# Altium schematic symbol library Connectors.SchLib: 11 symbols
Pins are listed as number, name and electrical type; pins without a type are passive.

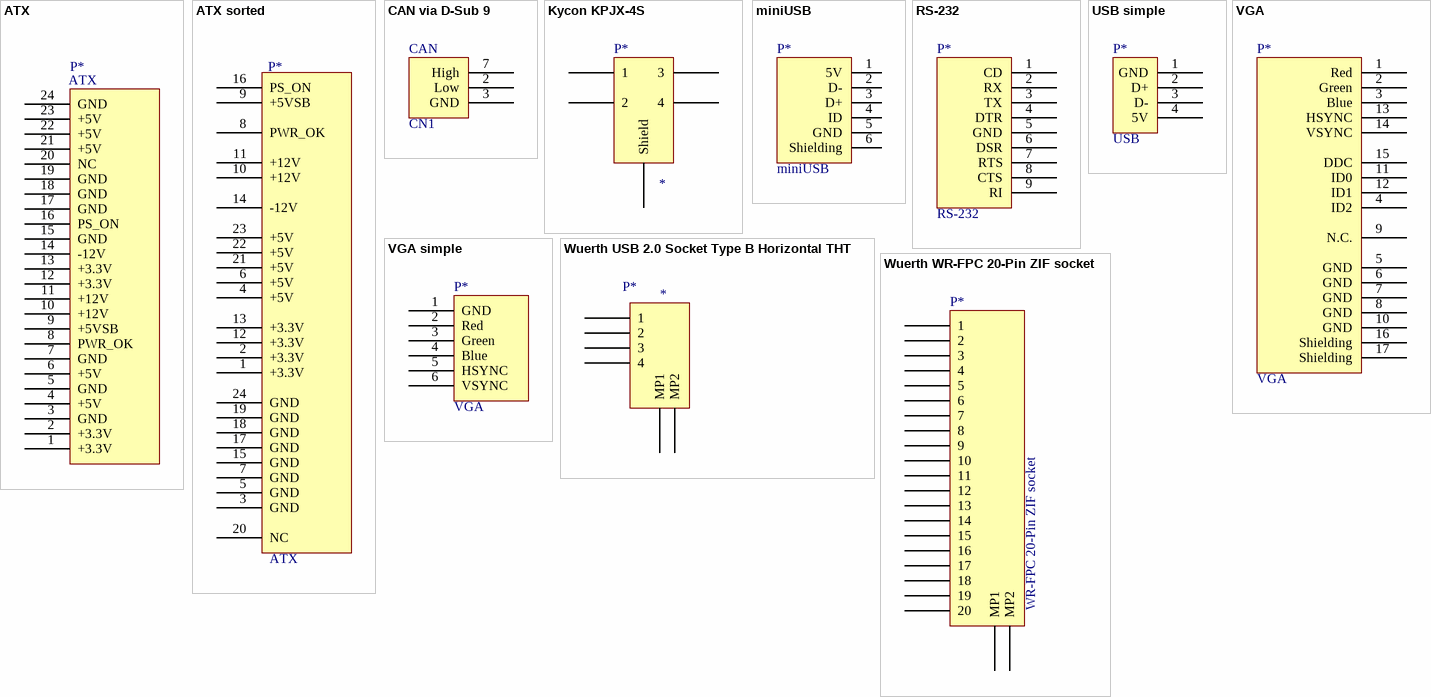
[diagram p0: symbols ATX to Wuerth WR-FPC 20-Pin ZIF socket]

## ATX
designator P*
pins: 1 +3.3V, 2 +3.3V, 3 GND, 4 +5V, 5 GND, 6 +5V, 7 GND, 8 PWR_OK, 9 +5VSB, 10 +12V, 11 +12V, 12 +3.3V, 13 +3.3V, 14 -12V, 15 GND, 16 PS_ON, 17 GND, 18 GND, 19 GND, 20 NC, 21 +5V, 22 +5V, 23 +5V, 24 GND

## ATX sorted
designator P*, comment ATX
pins: 1 +3.3V, 2 +3.3V, 3 GND, 4 +5V, 5 GND, 6 +5V, 7 GND, 8 PWR_OK, 9 +5VSB, 10 +12V, 11 +12V, 12 +3.3V, 13 +3.3V, 14 -12V, 15 GND, 16 PS_ON, 17 GND, 18 GND, 19 GND, 20 NC, 21 +5V, 22 +5V, 23 +5V, 24 GND

## CAN via D-Sub 9
designator CN1, comment CAN
footprint D-SUB 9
pins: 2 Low, 3 GND, 7 High

## Kycon KPJX-4S
designator P*
DC supply connector; Manufacturing Part Nr.: KPJX-4S; Maunfacturing Name: Kycon; Value: 7.5A 48Vdc; Link: https://de.rs-online.com/web/p/dc-buchsen/6677283/; Datasheet: http://anacapa.kycon.com/Pub_Eng_Draw/KPJX-PM-4S.pdf; Price: 6,57€; Supplier Name: RS; Supplier Part Nr.: 667-7283; Type: DC Connector
pins: 1, 2, 3 (power), 4 (power), SHD Shield

## miniUSB
designator miniUSB, comment P*
footprint miniUSB
pins: 1 5V, 2 D-, 3 D+, 4 ID, 5 GND, 6 Shielding

## RS-232
designator P*
pins: 1 CD, 2 RX, 3 TX, 4 DTR, 5 GND, 6 DSR, 7 RTS, 8 CTS, 9 RI

## USB simple
designator P*, comment USB
footprint USB plug
pins: 1 GND, 2 D+, 3 D-, 4 5V

## VGA
designator P*
pins: 1 Red, 2 Green, 3 Blue, 4 ID2, 5 GND, 6 GND, 7 GND, 8 GND, 9 N.C., 10 GND, 11 ID0, 12 ID1, 13 HSYNC, 14 VSYNC, 15 DDC, 16 Shielding, 17 Shielding

## VGA simple
designator P*, comment VGA
pins: 1 GND, 2 Red, 3 Green, 4 Blue, 5 HSYNC, 6 VSYNC

## Wuerth USB 2.0 Socket Type B Horizontal THT
designator P*
USB socket; Manufacturer: Wuerth; Manufacturer Part Number: 61400416121; RS Article Number: 748-0866; Manufacturer Product URL: https://katalog.we-online.de/de/em/COM_TYPE_B_HORIZONTAL; RS Article URL: https://de.rs-online.com/web/p/usb-typ-b-steckverbinder/7480866/
footprint Wuerth USB 2.0 Type B Socket
pins: 1, 2, 3, 4, MP1, MP2

## Wuerth WR-FPC 20-Pin ZIF socket
designator P*, comment WR-FPC 20-Pin ZIF socket
ZIF socket; Manufacturer Part Nr.: 687120149022; DigiKey URL: https://www.digikey.de/product-detail/de/wurth-electronics-inc/687120149022/732-6002-1-ND/5047598
pins: 1, 2, 3, 4, 5, 6, 7, 8, 9, 10, 11, 12, 13, 14, 15, 16, 17, 18, 19, 20, MP1, MP2